# Altium schematic symbol library TPS61090RSAR.SchLib: 1 symbol
Pins are listed as number, name and electrical type; pins without a type are passive.

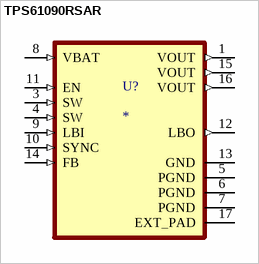
[diagram p0: symbol TPS61090RSAR]

## TPS61090RSAR
designator U?
1.8Vin, 2A Switch, 96% Efficient Boost Converter 16-QFN -40 to 85; MF: Texas Instruments; MP: TPS61090RSAR; SnapEDA_Link: https://www.snapeda.com/parts/TPS61090RSAR/Texas%20Instruments/view-part/51689/?ref=snap; Availability: Good; Price: None; Package: VQFN-16 Texas Instruments; Purchase-URL: https://pricing.snapeda.com/search/part/TPS61090RSAR/?ref=eda; Check_prices: https://www.snapeda.com/parts/TPS61090RSAR/Texas%20Instruments/view-part/51689/?ref=eda; Value: *
footprint QFN65P400X400X100-17N
pins: 1 VOUT (out), 3 SW (in), 4 SW (in), 5 PGND (power), 6 PGND (power), 7 PGND (power), 8 VBAT (in), 9 LBI (in), 10 SYNC (in), 11 EN (in), 12 LBO (out), 13 GND (power), 14 FB (in), 15 VOUT (out), 16 VOUT (out), 17 EXT_PAD (power)